# EAGLE library part STECKER_BOSCH_25-PIN (library k-data Mechanik)
Bosch Stecker 25 pol. für Digifant (25p)
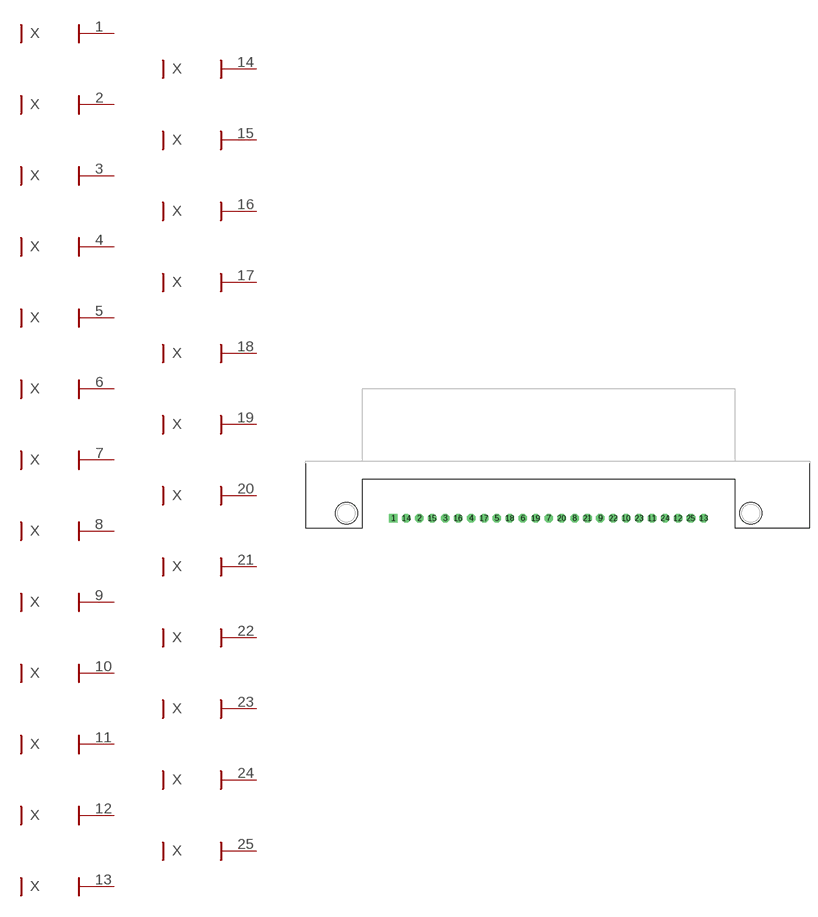
[diagram p10: symbol with the pads of STECKER_BOSCH_25-PIN; footprint STECKER_BOSCH_25-PIN]

Designator prefix X; gates 1=CONNECTOR 2=CONNECTOR 3=CONNECTOR 4=CONNECTOR 5=CONNECTOR 6=CONNECTOR 7=CONNECTOR 8=CONNECTOR 9=CONNECTOR 10=CONNECTOR 11=CONNECTOR 12=CONNECTOR 13=CONNECTOR 14=CONNECTOR 15=CONNECTOR 16=CONNECTOR 17=CONNECTOR 18=CONNECTOR 19=CONNECTOR 20=CONNECTOR 21=CONNECTOR 22=CONNECTOR 23=CONNECTOR 24=CONNECTOR 25=CONNECTOR

## STECKER_BOSCH_25-PIN  [STECKER_BOSCH_25-PIN]
1  1:1
2  2:1
3  3:1
4  4:1
5  5:1
6  6:1
7  7:1
8  8:1
9  9:1
10  10:1
11  11:1
12  12:1
13  13:1
14  14:1
15  15:1
16  16:1
17  17:1
18  18:1
19  19:1
20  20:1
21  21:1
22  22:1
23  23:1
24  24:1
25  25:1

## Footprint STECKER_BOSCH_25-PIN (pad centres in mm)
Bosch Stecker 25 pol.
drill 1.1 pad 1.6 square: 1 -30,-11.1
drill 1.1 pad 1.6 octagon: 2 -25,-11.1; 3 -20,-11.1; 4 -15,-11.1; 5 -10,-11.1; 6 -5,-11.1; 7 0,-11.1; 8 5,-11.1; 9 10,-11.1; 10 15,-11.1; 11 20,-11.1; 12 25,-11.1; 13 30,-11.1; 14 -27.5,-11.1; 15 -22.5,-11.1; 16 -17.5,-11.1; 17 -12.5,-11.1; 18 -7.5,-11.1; 19 -2.5,-11.1; 20 2.5,-11.1; 21 7.5,-11.1; 22 12.5,-11.1; 23 17.5,-11.1; 24 22.5,-11.1; 25 27.5,-11.1
hole 4.2 at -39.1,-10.1
hole 4.2 at 39.1,-10.1